# Altium schematic symbol library coenv_SCHLIB.SchLib: 15 symbols
Pins are listed as number, name and electrical type; pins without a type are passive.

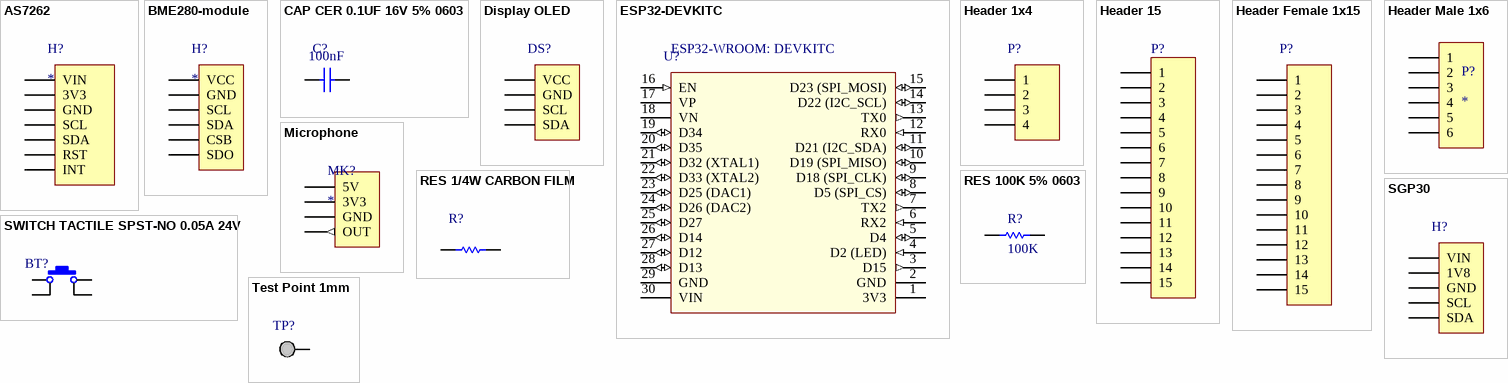
[diagram p0: symbols AS7262 to Test Point 1mm]

## AS7262
designator H?
Adafruit AS7262 6-Channel Visible Light / Color Sensor Breakout; Manufacturer: Adafruit Industries; Manufacturer Part Number: 3779; Supplier 1: Digi-Key; RoHS: No; Stock 1: 90; Pricing 1: 1=19,95000 (USD); Supplier Part Number 1: 1528-2575-ND
footprint AS7262 (PinHeader 1x6 TH Pitch 2.54mm)
pins: 1 VIN (power), 2 3V3 (power), 3 GND (power), 4 SCL, 5 SDA, 6 RST, 7 INT

## BME280-module
designator H?
SENSOR HUM/PRESS I2C/SPI BME280; Manufacturer: Adafruit Industries; Manufacturer Part Number: 2652; Sensor Type: Temperature; Interface: I2C,SPI; Evaluation Kit: Yes; BME280: 485-2652; Supplier 1: Mouser; RoHS: Yes; Stock 1: 267; Pricing 1: 1=19,95000, 10=19,95000 (USD); Package Quantity: 1; ComponentLink1URL: http://www.mouser.com/ds/2/737/adafruit-bme280-humidity-barometric-pressure-tempe-740823.pdf?src-supplier=Mouser; ComponentLink1Description: http://www.mouser.com/ds/2/737/adafruit-bme280-humidity-barometric-pressure-tempe-740823.pdf?src-supplier=Mouser; ComponentLink2URL: https://learn.adafruit.com/downloads/pdf/adafruit-bme280-humidity-barometric-pressure-temperature-sensor-breakout.pdf?src-supplier=Digi-Key; ComponentLink2Description: https://learn.adafruit.com/downloads/pdf/adafruit-bme280-humidity-barometric-pressure-temperature-sensor-breakout.pdf?src-supplier=Digi-Key
footprint BME280 1x6 (PinHeader 1x6 TH Pitch 2.54mm)
pins: 1 VCC (power), 2 GND (oe), 3 SCL, 4 SDA, 5 CSB, 6 SDO

## CAP CER 0.1UF 16V 5% 0603
designator C?, comment value 100nF  (hidden comment: VJ0603Y104JXJPW1BC)
Multilayer Ceramic Capacitors MLCC - SMD/SMT 0603 0.1uF 16volts X7R 5%; Manufacturer: Vishay / Vitramon; Type: Ultra Small Commodity MLCCs; Voltage Rating DC: 16 V; Case Height: 0.95 mm; Case Length: 1.6 mm; Case Width: 0.8 mm; Dissipation Factor DF: 3.5; Temperature Coefficient / Code: +/- 15 %; Supplier 1: Mouser; Manufacturer Part Number: VJ0603Y104JXJPW1BC; RoHS: RoHS Compliant; Category: Multilayer Ceramic Capacitors MLCC - SMD/SMT; Stock 1: 111624; Pricing 1: 1=0.089, 50=0.036, 100=0.028, 500=0.025, 1000=0.022, 15000=0.018, 75000=0.016 (AUD); Capacitance: 0.1 uF; Operating Temperature Range: - 55 C to + 125 C; Package / Case: 0603 (1608 metric); Packaging: Reel; Product: General Type MLCCs; Series: VJ W1BC; Termination Style: SMD/SMT; Tolerance: 5 %; Voltage Rating AC: -; Brand: Vishay / Vitramon; Case Code - in: 0603; Case Code - mm: 1608; Dielectric: X7R; Maximum Operating Temperature: + 125 C; Minimum Operating Temperature: - 55 C; Product Category: Ceramic Chip Capacitors; Standard Pack Qty: 15000; RoHS - Mouser: Y; Minimum Order Quantity: 1; Reeling: True; ComponentLink1URL: http://www.mouser.com/ds/2/427/vjw1bcbascomseries-223529.pdf; ComponentLink1Description: http://www.mouser.com/ds/2/427/vjw1bcbascomseries-223529.pdf; Supplier Part Number 1: 77-VJ0603Y104JXJPBC
footprint Capacitor-0603 (Chip Capacitor; Body 1.6 x 0.8 mm (LxW typ))
footprint CAP CER DISK 100NF 50V (Connector; Header; 5 Position)
pins: 1, 2

## Display OLED
designator DS?  (value not drawn)
MONOCHROME 1.3 128X64; Manufacturer: Adafruit Industries; Manufacturer Part Number: 938; Resolution (height): 64pixel; Resolution (width): 128pixel; Interface: I2C; Background Color: Black; Diagonal Size: 0.96inch; Supplier 1: Mouser; RoHS: Yes; Category: LCD, OLED, Graphic Displays; Pricing 1: 1=19,95000, 10=19,95000 (USD); ComponentLink1URL: https://learn.adafruit.com/downloads/pdf/monochrome-oled-breakouts.pdf?src-supplier=Digi-Key; ComponentLink1Description: https://learn.adafruit.com/downloads/pdf/monochrome-oled-breakouts.pdf?src-supplier=Digi-Key; Supplier Part Number 1: 485-938
footprint OLED 128x64 (PinHeader 1x4 TH Pitch 2.54mm)
footprint OLED 128x64 - offset (PinHeader 1x4 TH Pitch 2.54mm)
pins: 1 VCC (power), 2 GND (power), 3 SCL, 4 SDA

## ESP32-DEVKITC
designator U?  ESP32-WROOM: DEVKITC  (hidden comment: *)
EVAL BOARD FOR ESP-WROOM-32; Manufacturer: Espressif Systems; Manufacturer Part Number: ESP32-DEVKITC; Frequency: 2.4GHz; Supplier 1: Digi-Key; RoHS: No; Category: RF Semiconductors and Devices; Pricing 1: 1=0,00000 (USD); ComponentLink1URL: https://www.espressif.com/sites/default/files/documentation/esp32-wroom-32_datasheet_en.pdf?src-supplier=Digi-Key; ComponentLink1Description: https://www.espressif.com/sites/default/files/documentation/esp32-wroom-32_datasheet_en.pdf?src-supplier=Digi-Key
footprint ESP32-WROOM-devkit
pins: 1 3V3 (power), 2 GND (power), 3 D15 (out), 4 D2 (LED) (in), 5 D4 (io), 6 RX2 (in), 7 TX2 (out), 8 D5 (SPI_CS) (io), 9 D18 (SPI_CLK) (io), 10 D19 (SPI_MISO) (io), 11 D21 (I2C_SDA) (io), 12 RX0 (in), 13 TX0 (out), 14 D22 (I2C_SCL) (io), 15 D23 (SPI_MOSI) (io), 16 EN (in), 17 VP, 18 VN, 19 D34 (io), 20 D35 (io), 21 D32 (XTAL1) (io), 22 D33 (XTAL2) (io), 23 D25 (DAC1) (io), 24 D26 (DAC2) (io), 25 D27 (io), 26 D14 (io), 27 D12 (io), 28 D13 (io), 29 GND (power), 30 VIN (power)

## Header 1x4
designator P?  (value not drawn)
Headers & Wire Housings 40Pin 2mm Spacing Single Row Hdrs, 5pc; Manufacturer: Cromax; Manufacturer Part Number: IMP10327; Mounting Angle: Vertical; Number of Positions: 40 Position; Supplier 1: Mult Comercial; RoHS: RoHS Compliant; Category: Headers & Wire Housings; Stock 1: 14; Pricing 1: 1=1.00, 5=0.20 (BRL); Accessory Type: -; Contact Plating: Gold; Contact Type: -; Number of Rows: 1 Row; Product: Headers; Termination Style: Through Hole; Type: Breakaway; Brand: Cromax; Mounting Style: Straight Pin; Pitch: 2 mm; Row Spacing: -; Contact Gender: Pin (Male); Product Category: Accessories; RoHS - Mouser: Y; Minimum Order Quantity: 1; Reeling: False; ComponentLink1URL: http://loja.multcomercial.com.br/barra-de-pinos-simples-1x40-macho-bmo40-1e.html; ComponentLink1Description: http://loja.multcomercial.com.br/barra-de-pinos-simples-1x40-macho-bmo40-1e.html; Supplier Part Number 1: Barra de Pinos Simples 1x40 Macho BMO40-1E
footprint HDR MALE 1x4 (PinHeader 1x4 TH Pitch 2.54mm)
footprint HDR FEMALE 1x4 (Connector; Header; 4 Position)
footprint HDR1X4
footprint Receptor (Connector; Header; 5 Position)
pins: 1, 2, 3 (power), 4 (power)

## Header 15
designator P?  (value not drawn)
Header, 15-Pin; LatestRevisionDate: 17-Jul-2002; LatestRevisionNote: Re-released for DXP Platform.; Publisher: Altium Limited
footprint HDR FEMALE 1x15
pins: 1, 2, 3, 4, 5, 6, 7, 8, 9, 10, 11, 12, 13, 14, 15

## Header Female 1x15
designator P?  (value not drawn)
Headers & Wire Housings 40Pin 2mm Spacing Single Row Hdrs, 5pc; Manufacturer: Cromax; Mounting Angle: Vertical; Number of Positions: 40 Position; Supplier 1: -; Manufacturer Part Number: -; RoHS: RoHS Compliant; Category: Headers & Wire Housings; Stock 1: 14; Pricing 1: 1=1.60, 5=0.32 (BRL); Accessory Type: -; Contact Plating: Gold; Contact Type: -; Number of Rows: 1 Row; Product: Headers; Termination Style: Through Hole; Type: Breakaway; Brand: Cromax; Mounting Style: Straight Pin; Pitch: 2 mm; Row Spacing: -; Contact Gender: Pin (Female); Product Category: Accessories; RoHS - Mouser: Y; Minimum Order Quantity: 1; Reeling: False; ComponentLink1URL: -; ComponentLink1Description: -; Supplier Part Number 1: -
footprint HDR FEMALE 1x15
pins: 1, 2, 3 (power), 4 (power), 5, 6, 7 (power), 8 (power), 9, 10, 11 (power), 12 (power), 13, 14, 15 (power)

## Header Male 1x6
designator P?
Headers & Wire Housings 36Pin 2mm Spacing Single Row Hdrs, 5pc; Manufacturer: Molex, LLC; Manufacturer Part Number: 0022284360; Connector Type: Header, Unshrouded, Breakaway; Number of Positions: 36; Number of Positions Loaded: All; Pitch: 0.100" (2.54mm); Supplier 1: Digi-Key; RoHS: RoHS Compliant; Category: Connectors, Interconnects; Stock 1: 9595; Pricing 1: 1=0.98, 10=0.858, 25=0.808, 50=0.7742, 100=0.7405, 250=0.6732, 500=0.60588 (USD); Packaging: Bulk; Contact Type: Male Pin; Number of Rows: 1; Row Spacing: -; Contact Mating Length: 0.240" (6.10mm); Mounting Type: Through Hole; Termination: Solder; Fastening Type: -; Features: -; Contact Finish: Tin; Contact Finish Thickness: 100µin (2.54µm); Color: Black; ComponentLink1URL: http://www.molex.com/pdm_docs/sd/022284360_sd.pdf; ComponentLink1Description: http://www.molex.com/pdm_docs/sd/022284360_sd.pdf; Supplier Part Number 1: WM50014-36-ND
footprint HDR FEMALE 1x6
footprint HDR1X6
footprint HDR MALE 1X6 (PinHeader 1x6 TH Pitch 2.54mm)
pins: 1, 2, 3, 4, 5, 6

## Microphone
designator MK?
Accessory Type:Electret Microphone; For Use With:MCU & Sensor Evaluation & Development Boards; Features:20-20kHz Electret Microphone, Adjustable Gain, Excellent Power Supply Noise Rejection ;RoHS Compliant: Yes; Manufacturer: Adafruit Industries; Manufacturer Part Number: 1063; Supplier 1: Digi-Key; RoHS: Yes; Category: Integrated Circuits (ICs); Stock 1: 517; Pricing 1: 1=6,95000 (USD); Evaluation Kit: Yes; REACH SVHC: Unknown; ComponentLink1URL: https://datasheet.ciiva.com/46423/1815587-46423253.pdf?src-supplier=Element14; ComponentLink1Description: https://datasheet.ciiva.com/46423/1815587-46423253.pdf?src-supplier=Element14; Supplier Part Number 1: 1528-1013-ND
footprint microphone module - front (Connector; Header; 4 Position)
footprint microphone module- up (Connector; Header; 4 Position)
footprint microphone module max4466 (Connector; Header; 4 Position)
pins: 1 5V (power), 2 3V3 (power), 3 GND (power), 4 OUT (out)

## RES 1/4W CARBON FILM
designator R?  (value not drawn)
RES ? OHM 1/4W 5% CARBON FILM; Manufacturer: Ty-Ohm; Manufacturer Part Number: CR25; Power (Watts): 0.25W, 1/4W; Temperature Coefficient: 0/ -500ppm/°C; Supplier 1: Mult Comercial; RoHS: RoHS Compliant; Category: Resistors; Stock 1: 617543; Pricing 1: 1=0.20 (BRL); Packaging: Cut Tape (CT); Tolerance: ±5%; Composition: Carbon Film; Features: Flame Retardant Coating, Safety; Operating Temperature: -55°C ~ 155°C; Package / Case: Axial; Supplier Device Package: Axial; Size / Dimension: 0.091" Dia x 0.256" L (2.30mm x 6.50mm); Height: -; Number of Terminations: 2; ComponentLink1URL: http://loja.multcomercial.com.br/resistor-de-1-4-de-watt-cr25-5-de-tolerancia.html; ComponentLink1Description: http://loja.multcomercial.com.br/resistor-de-1-4-de-watt-cr25-5-de-tolerancia.html; Supplier Part Number 1: Resistor de Filme de Carbono 1/4 de Watt CR25 5% de tolerância - 0.22R Ω à 10M Ω; Resistance (Ohms): ?
footprint RES 10K 1/4W CARBON FILM
footprint RES 10K 1/4W CARBON FILM_STAND
pins: 1, 2

## RES 100K 5% 0603
designator R?, comment 100K
Manufacturer: PANASONIC ELECTRONIC COMPONENTS; Manufacturer Part Number: ERJ3GEYJ104V; Product Range: AEC-Q200 ERJ3; Resistance: 100; Resistance Tolerance: ± 5%; Voltage Rating: 75; Resistor Case Style: 0603 [1608 Metric]; Resistor Element Material: Thick Film; Temperature Coefficient: ± 200; SVHC: No SVHC (15-Jun-2015); Resistor Mounting: Surface Mount Device<!--FANDB--><div class="features-and-benefits-container"><div class="features-and-benefits-description"><span class="features-benefits-value">The Panasonic ERJ 3G series resistors are automotive grade thick film chip resistors. The resistance range includes E24 decade values from 1ohm to 10Mohm. ERJ series resistors have metal glaze thick film resistive element and three layers of electrodes that make them highly reliable.</span></div><div class="features-and-benefits-list"><ul class="features-and-benefits-list-list"><li class="features-and-benefits-list-item">EIA 01005, 0201, 0402, 0603, 0805, 1206, 1210, 1812, 2010, 2512 case sizes available</li><li class="features-and-benefits-list-item">Small size, low weight resistors</li><li class="features-and-benefits-list-item">Automotive grade AEC-Q200 compliant</li><li class="features-and-benefits-list-item">Maximum power rating of 1W</li><li class="features-and-benefits-list-item">Tolerance of ±5%</li><li class="features-and-benefits-list-item">Temperature coefficient (TCR) of -100 to +600, -400 to +150, ±300 and ±200ppm/°C</li><li class="features-and-benefits-list-item">Available in -55°C to 125°C and -55°C to 155°C operating temperature ranges</li><li class="features-and-benefits-list-item">Meets IEC 60115-8, JIS C 5201-8, EIAJ RC-2134; Tolerance: 5 %; Brand: Panasonic; Qualification: AEC-Q200; RoHS: YES; Power Rating: 100; Packaging: Cut Tape; MSL: -; ComponentLink1URL: http://www.farnell.com/datasheets/1678796.pdf; ComponentLink1Description: http://www.farnell.com/datasheets/1678796.pdf; ComponentLink2URL: http://www.farnell.com/datasheets/1718548.pdf; ComponentLink2Description: http://www.farnell.com/datasheets/1718548.pdf; Supplier 1: Mouser; Category: Thick Film Resistors - SMD; Stock 1: 312094; Pricing 1: 1=0.160, 10=0.019, 100=0.013, 500=0.010, 1000=0.005, 5000=0.003 (AUD); Height: 0.45 mm; Length: 1.6 mm; Operating Temperature Range: - 55 C to + 155 C; Package / Case: 0603 (1608 metric); Product: Thick Film Resistors SMD; Series: ERJ; Termination Style: SMD/SMT; Type: Thick Film Resistors SMD; Width: 0.8 mm; Case Code - in: 0603; Case Code - mm: 1608; RoHS - Mouser: E; Minimum Order Quantity: 1; Reeling: True; ComponentLink3URL: http://www.mouser.com/ds/2/315/AOA0000C84-947596.pdf; ComponentLink3Description: http://www.mouser.com/ds/2/315/AOA0000C84-947596.pdf; Supplier Part Number 1: 667-ERJ-3GEYJ104V
footprint RESISTOR 0603 (RES 5% 0603)
pins: 1, 2

## SGP30
designator H?  (value not drawn)
SGP30 AIR QUALITY SENSOR BREAKOU; Manufacturer: Adafruit Industries; Manufacturer Part Number: 3709; Interface: I2C; Supplier 1: Digi-Key; RoHS: No; Stock 1: 89; Pricing 1: 1=19,95000 (USD); ComponentLink1URL: https://cdn-learn.adafruit.com/downloads/pdf/adafruit-sgp30-gas-tvoc-eco2-mox-sensor.pdf?src-supplier=Digi-Key; ComponentLink1Description: https://cdn-learn.adafruit.com/downloads/pdf/adafruit-sgp30-gas-tvoc-eco2-mox-sensor.pdf?src-supplier=Digi-Key; Supplier Part Number 1: 1528-2531-ND
footprint SGP30 1x5 (PinHeader 1x6 TH Pitch 2.54mm)
pins: 1 VIN (power), 2 1V8 (power), 3 GND (power), 4 SCL, 5 SDA

## SWITCH TACTILE SPST-NO 0.05A 24V
designator BT?, comment SPST  (value not drawn)
SWITCH TACTILE SPST-NO 0.05A 24V; Manufacturer: TE Connectivity ALCOSWITCH Switches; Manufacturer Part Number: FSM2JSMAA; Switch Function: Off-Mom; Contact Rating @ Voltage: 0.05A @ 24VDC; Actuator Type: Standard; Actuator Height off PCB, from Pins: 4.30mm; Actuator Orientation: Top Actuated; Outline: 6.00mm x 6.00mm; Illumination: Non-Illuminated; Operating Force: 260gf; Actuator Material: Polyamide (PA), Nylon; Switch Travel: 0.25mm; Mechanical Life: 100,000 Cycles; Supplier 1: Digi-Key; RoHS: RoHS Compliant; Category: Switches; Stock 1: 1989; Pricing 1: 1=0.16, 10=0.159, 25=0.1532, 50=0.1476, 100=0.1394, 250=0.1312, 500=0.12574, 1000=0.09568 (USD); Packaging: Bulk; Part Status: Active; Circuit: SPST-NO; Mounting Type: Surface Mount; Termination Style: Gull Wing; Illumination Voltage (Nominal): -; Illumination Type, Color: -; Ingress Protection: -; Features: -; Operating Temperature: -35°C ~ 85°C; ComponentLink1URL: http://www.te.com/commerce/DocumentDelivery/DDEController?Action=srchrtrv&DocNm=2-1437565-7&DocType=Customer+Drawing&DocLang=English; ComponentLink1Description: http://www.te.com/commerce/DocumentDelivery/DDEController?Action=srchrtrv&DocNm=2-1437565-7&DocType=Customer+Drawing&DocLang=English; Supplier Part Number 1: FSM2JSMAA-ND
footprint TACTILE SWITCH SMD (TACTILE SWITCH 4.3MM)
footprint TACT SWITCH PHT (Tactile Switch 6x6x7mm)
pins: 1, 2, 3, 4

## Test Point 1mm
designator TP?  (value not drawn)
footprint TEST POINT
pins: 1